# Altium footprint library CDRH125.PcbLib: 1 footprints
Each footprint in its own frame and in the unit in brackets; x right, y up, seen from the top. Pads: shape width x height; smd on the part's side, far side on the other; paste and mask are expansions set on the pad; w line width, h text height; cw(c..) or ccw(c..) is an arc to the next point about the centre after c.
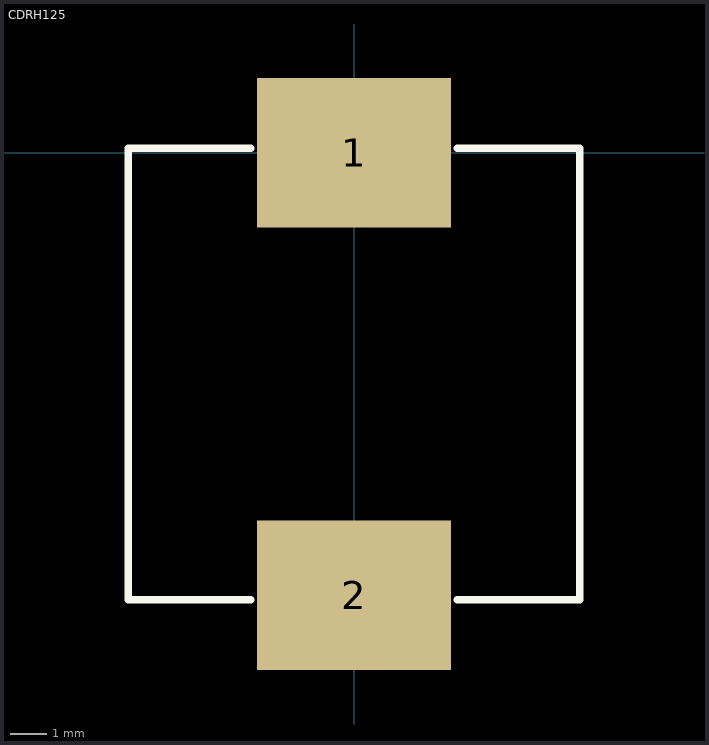
[diagram p0: the footprint, top view; thin cyan lines are the x and y axes]

## CDRH125 [mil]
height 236
pads (2):
  rect 207x160 smd: 1(0,0) 2(0,-472.44)
TopOverlay:
  lines w8: -110,-477 -241,-477 -241,5 -110,5 ; 110,-477 241,-477 241,5 110,5